# Altium schematic symbol library 760690014.SchLib: 1 symbol
Pins are listed as number, name and electrical type; pins without a type are passive.

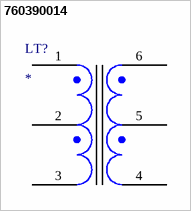
[diagram p0: symbol 760390014]

## 760390014
designator LT?
pins: 1, 2, 3, 4, 5, 6